# EAGLE library part XFMR-CCFL (library bodger)
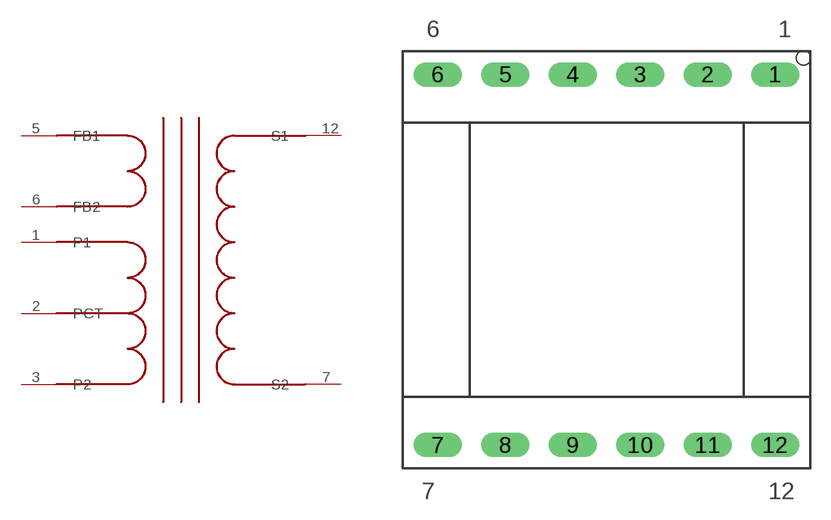
[diagram p17: symbol with the pads of CUSTOMCOILS_10163; footprint CUSTOMCOILS_10163]

Designator prefix -

## XFMR-CCFL  [CUSTOMCOILS_10163]
1  P1  in
2  PCT  pwr
3  P2  in
5  FB1  out
6  FB2  out
7  S2  out
12  S1  out

## Footprint CUSTOMCOILS_10163 (pad centres in mm)
Custom Coils transformer
drill 1.2 long: 1 12.509,13.754; 2 7.506,13.754; 3 2.502,13.754; 4 -2.502,13.754; 5 -7.506,13.754; 6 -12.509,13.754; 7 -12.509,-13.754; 8 -7.506,-13.754; 9 -2.502,-13.754; 10 2.502,-13.754; 11 7.506,-13.754; 12 12.509,-13.754